# Altium integrated library Analog Devices Data Converters Analog-to-Digital Converters.IntLib: 2400 symbols (part 70 of 338)
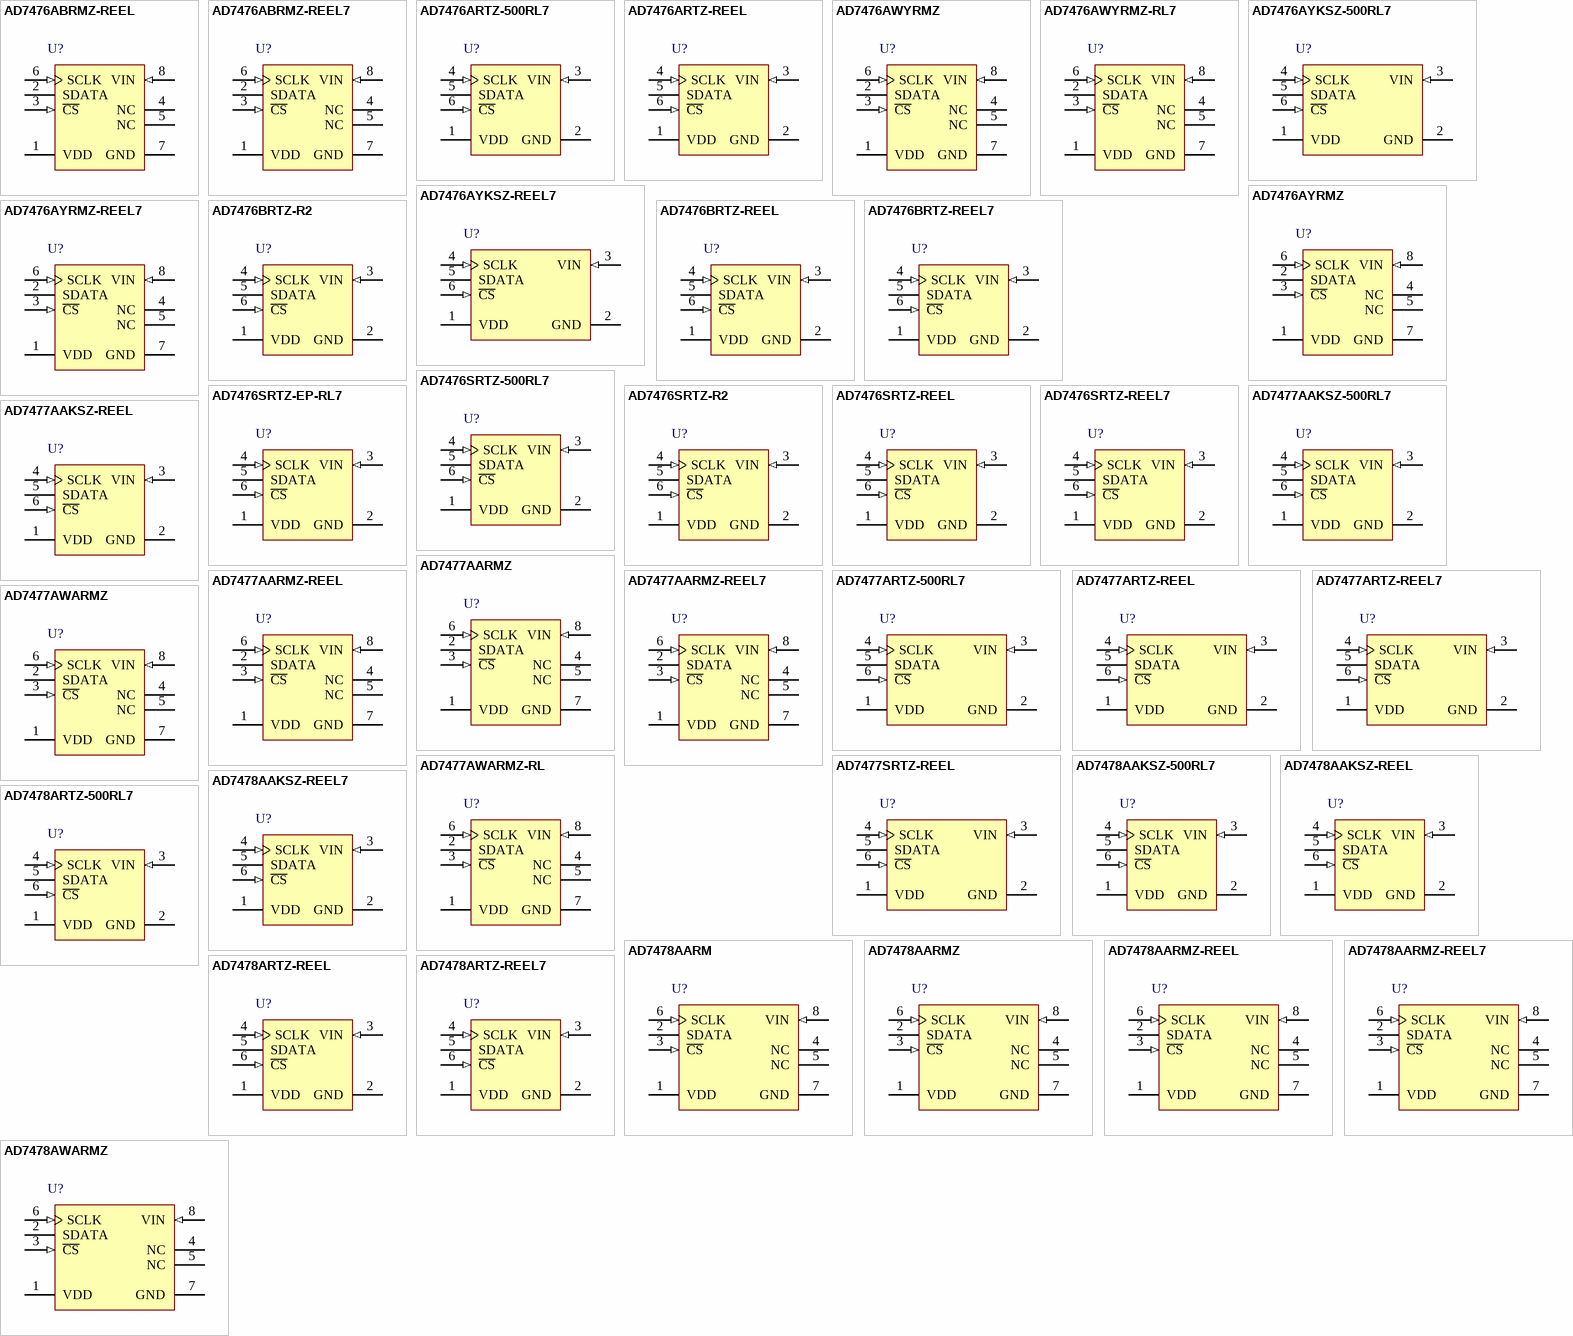
[diagram p195: symbols AD7476ABRMZ-REEL to AD7478AWARMZ]

## AD7478ARTZ-REEL7
designator U?
Single 8-Bit Analog-to-Digital Converter with Serial, SPI Interface, 1MSPS, -40 to +85 degC, RJ-6, Pb-Free, Reel; Part Number: AD7478; Manufacturer: Analog Devices; Resolution (Bits): 8; Channels: 1; Throughput Rate (SPS): 1M; Interface: Ser, SPI; DatasheetVersion: Rev.F; PackageVersion: 121608-A; PackageReference: RJ-6; PackageDescription: 6-Lead Small Outline Transistor Package [SOT-23]; RoHS: Y; Packing: Reel; Mounting Technology: Surface Mount; Code_JEDEC: MO-178-AB; ComponentLink1Description: Manufacturer URL; ComponentLink1URL: http://www.analog.com/en/index.html; ComponentLink2Description: Datasheet; ComponentLink2URL: http://www.analog.com/static/imported-files/data_sheets/AD7476_7477_7478.pdf; ComponentLink3Description: Package Specification; ComponentLink3URL: http://www.analog.com/static/imported-files/packages/PKG_PDF/SOT-23(RJ)/RJ_6.pdf; ComponentLink4Description: Product URL; ComponentLink4URL: http://www.analog.com/en/analog-to-digital-converters/ad-converters/ad7478/products/product.html
footprint RJ-6_N (SOT23, 6-Leads, Body 2.9x1.6mm, Pitch 0.95mm, Lead Span 2.8mm, IPC Medium Density)
footprint RJ-6_L (SOT23, 6-Leads, Body 2.9x1.6mm, Pitch 0.95mm, Lead Span 2.8mm, IPC High Density)
footprint RJ-6_M (SOT23, 6-Leads, Body 2.9x1.6mm, Pitch 0.95mm, Lead Span 2.8mm, IPC Low Density)
pins: 1 VDD (power) "Power Supply Input. The VDD range for the AD7476/AD7477/AD7478 is from 2.35 V to 5.25 V.", 2 GND (power) "Analog Ground. Ground reference point for all circuitry on the part. All analog input signals should be referred to this  GND voltage.", 3 VIN (in) "Analog Input. Single-ended analog input channel. The input range is 0 V to VDD.", 4 SCLK (in) "Serial Clock. Logic input. SCLK provides the serial clock for accessing data from the part. This clock input is also used as the clock source for the AD7476/AD7477/AD7478 conversion process.", 5 SDATA (hiz) "Data Out. Logic output. The conversion result is provided on this output as a serial data stream. The bits are clocked out on the falling edge of the SCLK input. The data stream from the AD7476 consists of four leading zeros (See Datasheet)", 6 ~{CS} (in) "Chip Select. Active low logic input. This input provides the dual function of initiating conversions on the AD7476/AD7477/AD7478 and framing the serial data transfer."

## AD7478AWARMZ
designator U?
Single 8-Bit Analog-to-Digital Converter with Serial, SPI Interface,2.35 V, 1.2MSPS, -40 to +85 degC, RM-8, Pb-Free, Tube; Part Number: AD7478A; Manufacturer: Analog Devices; Resolution (Bits): 8; Channels: 1; Throughput Rate (SPS): 1.2M; Interface: Ser, SPI; Automotive Qualified: Yes; DatasheetVersion: Rev.F; PackageVersion: Aug-2005; PackageReference: RM-8; PackageDescription: 8-Lead Mini Small Outline Package [MSOP]; RoHS: Y; Packing: Tube; Mounting Technology: Surface Mount; Code_JEDEC: MO-187-AA; ComponentLink1Description: Manufacturer URL; ComponentLink1URL: http://www.analog.com/en/index.html; ComponentLink2Description: Datasheet; ComponentLink2URL: http://www.analog.com/static/imported-files/data_sheets/AD7476A_7477A_7478A.pdf; ComponentLink3Description: Package Specification; ComponentLink3URL: http://www.analog.com/static/imported-files/packages/PKG_PDF/MSOP%28RM%29/RM_8.pdf; ComponentLink4Description: Product URL; ComponentLink4URL: http://www.analog.com/en/analog-to-digital-converters/ad-converters/ad7478a/products/product.html
footprint RM-8_N (TSOP, 8-Leads, Body 3x3mm, Pitch 0.65mm, IPC Medium Density)
footprint RM-8_L (TSOP, 8-Leads, Body 3x3mm, Pitch 0.65mm, IPC High Density)
footprint RM-8_M (TSOP, 8-Leads, Body 3x3mm, Pitch 0.65mm, IPC Low Density)
pins: 1 VDD (power) "Power Supply Input. The VDD range for AD7476A/AD7477A/AD7478A is from 2.35 V to 5.25 V.", 2 SDATA (hiz) "Data Out. Logic output. The conversion result from AD7476A/AD7477A/AD7478A is provided on this output as a serial data stream. The bits are clocked out on the falling edge of the SCLK input. The data stream from the AD7476A (See Datasheet)", 3 ~{CS} (in) "Chip Select. Active low logic input. This input provides the dual function of initiating conversions on the AD7476A/AD7477A/AD7478A and also frames the serial data transfer.", 4 NC "No Connect.", 5 NC "No Connect.", 6 SCLK (in) "Serial Clock. Logic input. SCLK provides the serial clock for accessing data from the part. This clock input is also used as the clock source for the conversion process of AD7476A/AD7477A/AD7478A.", 7 GND (power) "Analog Ground. Ground reference point for all circuitry on AD7476A/AD7477A/AD7478A. Refer all analog input signals to this GND voltage.", 8 VIN (in) "Analog Input. Single-ended analog input channel. The input range is 0 V to VDD."

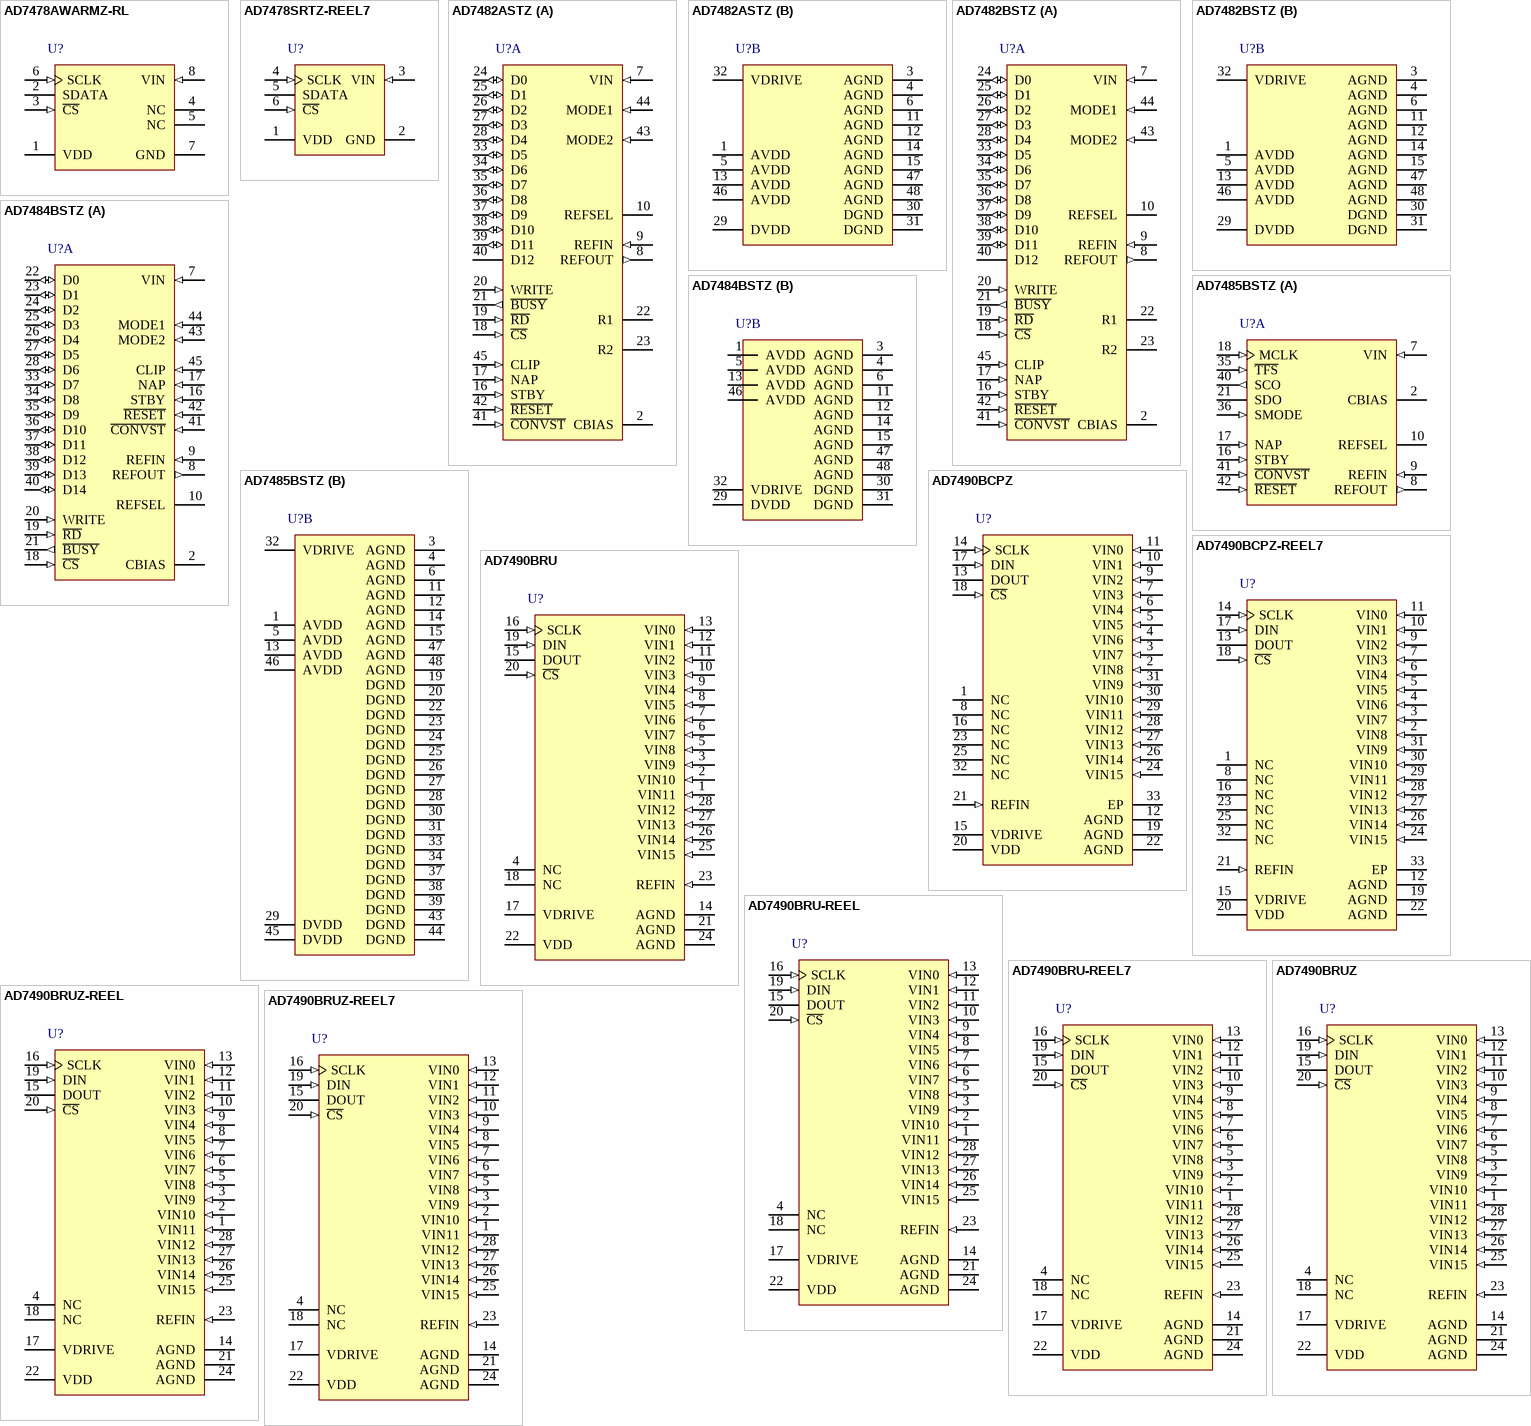
[diagram p26: symbols AD7478AWARMZ-RL to AD7490BRUZ-REEL7]

## AD7478AWARMZ-RL
designator U?
Single 8-Bit Analog-to-Digital Converter with Serial, SPI Interface,2.35 V, 1.2MSPS, -40 to +85 degC, RM-8, Pb-Free, Reel; Part Number: AD7478A; Manufacturer: Analog Devices; Resolution (Bits): 8; Channels: 1; Throughput Rate (SPS): 1.2M; Interface: Ser, SPI; Automotive Qualified: Yes; DatasheetVersion: Rev.F; PackageVersion: Aug-2005; PackageReference: RM-8; PackageDescription: 8-Lead Mini Small Outline Package [MSOP]; RoHS: Y; Packing: Reel; Mounting Technology: Surface Mount; Code_JEDEC: MO-187-AA; ComponentLink1Description: Manufacturer URL; ComponentLink1URL: http://www.analog.com/en/index.html; ComponentLink2Description: Datasheet; ComponentLink2URL: http://www.analog.com/static/imported-files/data_sheets/AD7476A_7477A_7478A.pdf; ComponentLink3Description: Package Specification; ComponentLink3URL: http://www.analog.com/static/imported-files/packages/PKG_PDF/MSOP%28RM%29/RM_8.pdf; ComponentLink4Description: Product URL; ComponentLink4URL: http://www.analog.com/en/analog-to-digital-converters/ad-converters/ad7478a/products/product.html
footprint RM-8_N (TSOP, 8-Leads, Body 3x3mm, Pitch 0.65mm, IPC Medium Density)
footprint RM-8_L (TSOP, 8-Leads, Body 3x3mm, Pitch 0.65mm, IPC High Density)
footprint RM-8_M (TSOP, 8-Leads, Body 3x3mm, Pitch 0.65mm, IPC Low Density)
pins: 1 VDD (power) "Power Supply Input. The VDD range for AD7476A/AD7477A/AD7478A is from 2.35 V to 5.25 V.", 2 SDATA (hiz) "Data Out. Logic output. The conversion result from AD7476A/AD7477A/AD7478A is provided on this output as a serial data stream. The bits are clocked out on the falling edge of the SCLK input. The data stream from the AD7476A (See Datasheet)", 3 ~{CS} (in) "Chip Select. Active low logic input. This input provides the dual function of initiating conversions on the AD7476A/AD7477A/AD7478A and also frames the serial data transfer.", 4 NC "No Connect.", 5 NC "No Connect.", 6 SCLK (in) "Serial Clock. Logic input. SCLK provides the serial clock for accessing data from the part. This clock input is also used as the clock source for the conversion process of AD7476A/AD7477A/AD7478A.", 7 GND (power) "Analog Ground. Ground reference point for all circuitry on AD7476A/AD7477A/AD7478A. Refer all analog input signals to this GND voltage.", 8 VIN (in) "Analog Input. Single-ended analog input channel. The input range is 0 V to VDD."

## AD7478SRTZ-REEL7
designator U?
Single 8-Bit Analog-to-Digital Converter with Serial, SPI Interface, 1MSPS, -55 to +125 degC, RJ-6, Pb-Free, Reel; Part Number: AD7478; Manufacturer: Analog Devices; Resolution (Bits): 8; Channels: 1; Throughput Rate (SPS): 1M; Interface: Ser, SPI; DatasheetVersion: Rev.F; PackageVersion: 121608-A; PackageReference: RJ-6; PackageDescription: 6-Lead Small Outline Transistor Package [SOT-23]; RoHS: Y; Packing: Reel; Mounting Technology: Surface Mount; Code_JEDEC: MO-178-AB; ComponentLink1Description: Manufacturer URL; ComponentLink1URL: http://www.analog.com/en/index.html; ComponentLink2Description: Datasheet; ComponentLink2URL: http://www.analog.com/static/imported-files/data_sheets/AD7476_7477_7478.pdf; ComponentLink3Description: Package Specification; ComponentLink3URL: http://www.analog.com/static/imported-files/packages/PKG_PDF/SOT-23(RJ)/RJ_6.pdf; ComponentLink4Description: Product URL; ComponentLink4URL: http://www.analog.com/en/analog-to-digital-converters/ad-converters/ad7478/products/product.html
footprint RJ-6_N (SOT23, 6-Leads, Body 2.9x1.6mm, Pitch 0.95mm, Lead Span 2.8mm, IPC Medium Density)
footprint RJ-6_L (SOT23, 6-Leads, Body 2.9x1.6mm, Pitch 0.95mm, Lead Span 2.8mm, IPC High Density)
footprint RJ-6_M (SOT23, 6-Leads, Body 2.9x1.6mm, Pitch 0.95mm, Lead Span 2.8mm, IPC Low Density)
pins: 1 VDD (power) "Power Supply Input. The VDD range for the AD7476/AD7477/AD7478 is from 2.35 V to 5.25 V.", 2 GND (power) "Analog Ground. Ground reference point for all circuitry on the part. All analog input signals should be referred to this  GND voltage.", 3 VIN (in) "Analog Input. Single-ended analog input channel. The input range is 0 V to VDD.", 4 SCLK (in) "Serial Clock. Logic input. SCLK provides the serial clock for accessing data from the part. This clock input is also used as the clock source for the AD7476/AD7477/AD7478 conversion process.", 5 SDATA (hiz) "Data Out. Logic output. The conversion result is provided on this output as a serial data stream. The bits are clocked out on the falling edge of the SCLK input. The data stream from the AD7476 consists of four leading zeros (See Datasheet)", 6 ~{CS} (in) "Chip Select. Active low logic input. This input provides the dual function of initiating conversions on the AD7476/AD7477/AD7478 and framing the serial data transfer."

## AD7482ASTZ
designator U?
Single 12-Bit SAR Analog-to-Digital Converter with Parallel Interface, 3MSPS, 0 to +70 degC, ST-48, Pb-Free, Tray; Part Number: AD7482; Manufacturer: Analog Devices; Resolution (Bits): 12; Channels: 1; Throughput Rate (SPS): 3M; Interface: Par; DatasheetVersion: Rev.B; PackageVersion: revA; PackageReference: ST-48; PackageDescription: 48-Pin Thin Quad Flat Pack 0.5 mm Pitch; RoHS: Y; Packing: Tray; Mounting Technology: Surface Mount; ComponentLink1Description: Manufacturer URL; ComponentLink1URL: http://www.analog.com/en/index.html; ComponentLink2Description: Datasheet; ComponentLink2URL: http://www.analog.com/static/imported-files/data_sheets/AD7482.pdf; ComponentLink3Description: Package Specification; ComponentLink3URL: http://www.analog.com/static/imported-files/packages/PKG_PDF/LQFP%28ST%29/ST_48.pdf; ComponentLink4Description: Product URL; ComponentLink4URL: http://www.analog.com/en/analog-to-digital-converters/ad-converters/ad7482/products/product.html
footprint ST-48_N (Thin QFP, 48-Leads, Body 7x7mm, Pitch 0.5mm, IPC Medium Density)
footprint ST-48_L (Thin QFP, 48-Leads, Body 7x7mm, Pitch 0.5mm, IPC High Density)
footprint ST-48_M (Thin QFP, 48-Leads, Body 7x7mm, Pitch 0.5mm, IPC Low Density)
part A pins: 2 CBIAS "Decoupling Pin for Internal Bias Voltage. A 1 nF capacitor should be placed between this pin and AGND.", 7 VIN (in) "Analog Input. Single ended analog input channel.", 8 REFOUT (out) "Reference Output. REFOUT connects to the output of the internal 2.5 V reference buffer. A 470 nF capacitor must be placed between this pin and AGND.", 9 REFIN (in) "Reference Input. A 470 nF capacitor must be placed between this pin and AGND. When using an external voltage reference source, the reference voltage should be applied to this pin.", 10 REFSEL "Reference Decoupling Pin. When using the internal reference, a 1 nF capacitor must be connected from this pin to AGND. When using an external reference source, this pin should be connected directly to AGND.", 16 STBY (in) "Standby Logic Input. When this pin is logic high, the device is placed in standby mode. See the Power Saving section for further details.", 17 NAP (in) "Nap Logic Input. When this pin is logic high, the device is placed in a very low power mode. See the Power Saving section for further details.", 18 ~{CS} (in) "Chip Select Logic Input. This pin is used in conjunction with R\D\ to access the conversion result. The data bus is brought out of three-state and the current contents of the output register driven onto the data lines (See Datasheet)", 19 ~{RD} (in) "Read Logic Input. Used in conjunction with C\S\ to access the conversion result.", 20 WRITE (in) "Write Logic Input. Used in conjunction with C\S\ to write data to the offset register. When the desired offset word has been placed on the data bus, the WRITE line should be pulsed high. It is the falling edge of this pulse (See Datasheet)", 21 ~{BUSY} (out) "Busy Logic Output. This pin indicates the status of the conversion process. The B\U\S\Y\ signal goes low after the falling edge of C\O\N\V\S\T\ and stays low for the duration of the conversion. In Parallel Mode 1, the (See Datasheet)", 22 R1 "No Connect. These pins should be pulled to ground via 100 kO resistors.", 23 R2 "No Connect. These pins should be pulled to ground via 100 kO resistors.", 24 D0 (io) "Data I/O Bits. D11 is MSB. These are three-state pins that are controlled by C\S\, R\D\, and WRITE. The operating voltage level for these pins is determined by the VDRIVE input.", 25 D1 (io) "Data I/O Bits. D11 is MSB. These are three-state pins that are controlled by C\S\, R\D\, and WRITE. The operating voltage level for these pins is determined by the VDRIVE input.", 26 D2 (io) "Data I/O Bits. D11 is MSB. These are three-state pins that are controlled by C\S\, R\D\, and WRITE. The operating voltage level for these pins is determined by the VDRIVE input.", 27 D3 (io) "Data I/O Bits. D11 is MSB. These are three-state pins that are controlled by C\S\, R\D\, and WRITE. The operating voltage level for these pins is determined by the VDRIVE input.", 28 D4 (io) "Data I/O Bits. D11 is MSB. These are three-state pins that are controlled by C\S\, R\D\, and WRITE. The operating voltage level for these pins is determined by the VDRIVE input.", 33 D5 (io) "Data I/O Bits. D11 is MSB. These are three-state pins that are controlled by C\S\, R\D\, and WRITE. The operating voltage level for these pins is determined by the VDRIVE input.", 34 D6 (io) "Data I/O Bits. D11 is MSB. These are three-state pins that are controlled by C\S\, R\D\, and WRITE. The operating voltage level for these pins is determined by the VDRIVE input.", 35 D7 (io) "Data I/O Bits. D11 is MSB. These are three-state pins that are controlled by C\S\, R\D\, and WRITE. The operating voltage level for these pins is determined by the VDRIVE input.", 36 D8 (io) "Data I/O Bits. D11 is MSB. These are three-state pins that are controlled by C\S\, R\D\, and WRITE. The operating voltage level for these pins is determined by the VDRIVE input.", 37 D9 (io) "Data I/O Bits. D11 is MSB. These are three-state pins that are controlled by C\S\, R\D\, and WRITE. The operating voltage level for these pins is determined by the VDRIVE input.", 38 D10 (io) "Data I/O Bits. D11 is MSB. These are three-state pins that are controlled by C\S\, R\D\, and WRITE. The operating voltage level for these pins is determined by the VDRIVE input.", 39 D11 (io) "Data I/O Bits. D11 is MSB. These are three-state pins that are controlled by C\S\, R\D\, and WRITE. The operating voltage level for these pins is determined by the VDRIVE input.", 40 D12 (hiz) "Data Output Bit for Overranging. If the overrange feature is not used, this pin should be pulled to DGND via a 100 kO resistor.", 41 ~{CONVST} (in) "Convert Start Logic Input. A conversion is initiated on the falling edge of the C\O\N\V\S\T\ signal. The input track-and-hold amplifier goes from track mode to hold mode, and the conversion process commences.", 42 ~{RESET} (in) "Reset Logic Input. An active low reset pulse must be applied to this pin after power-up to ensure correct operation. A falling edge on this pin resets the internal state machine and terminates a conversion that may be in (See Datasheet)", 43 MODE2 (in) "Operating Mode Logic Input. See Table 8 for details.", 44 MODE1 (in) "Operating Mode Logic Input. See Table 8 for details.", 45 CLIP (in) "Logic Input. A logic high on this pin enables output clipping. In this mode, any input voltage that is greater than positive full scale or less than negative full scale is clipped to all 1s or all 0s, respectively. Further (See Datasheet)"
part B pins: 1 AVDD (power) "Positive Power Supply for Analog Circuitry.", 3 AGND (power) "Power Supply Ground for Analog Circuitry.", 4 AGND (power) "Power Supply Ground for Analog Circuitry.", 5 AVDD (power) "Positive Power Supply for Analog Circuitry.", 6 AGND (power) "Power Supply Ground for Analog Circuitry.", 11 AGND (power) "Power Supply Ground for Analog Circuitry.", 12 AGND (power) "Power Supply Ground for Analog Circuitry.", 13 AVDD (power) "Positive Power Supply for Analog Circuitry.", 14 AGND (power) "Power Supply Ground for Analog Circuitry.", 15 AGND (power) "Power Supply Ground for Analog Circuitry.", 29 DVDD (power) "Positive Power Supply for Digital Circuitry.", 30 DGND (power) "Ground Reference for Digital Circuitry.", 31 DGND (power) "Ground Reference for Digital Circuitry.", 32 VDRIVE (power) "Logic Power Supply Input. The voltage supplied at this pin determines at what voltage the interface logic of the device operates.", 46 AVDD (power) "Positive Power Supply for Analog Circuitry.", 47 AGND (power) "Power Supply Ground for Analog Circuitry.", 48 AGND (power) "Power Supply Ground for Analog Circuitry."

## AD7482BSTZ
designator U?
Single 12-Bit SAR Analog-to-Digital Converter with Parallel Interface, 3MSPS, 0 to +70 degC, ST-48, Pb-Free, Tray; Part Number: AD7482; Manufacturer: Analog Devices; Resolution (Bits): 12; Channels: 1; Throughput Rate (SPS): 3M; Interface: Par; DatasheetVersion: Rev.B; PackageVersion: revA; PackageReference: ST-48; PackageDescription: 48-Pin Thin Quad Flat Pack 0.5 mm Pitch; RoHS: Y; Packing: Tray; Mounting Technology: Surface Mount; ComponentLink1Description: Manufacturer URL; ComponentLink1URL: http://www.analog.com/en/index.html; ComponentLink2Description: Datasheet; ComponentLink2URL: http://www.analog.com/static/imported-files/data_sheets/AD7482.pdf; ComponentLink3Description: Package Specification; ComponentLink3URL: http://www.analog.com/static/imported-files/packages/PKG_PDF/LQFP%28ST%29/ST_48.pdf; ComponentLink4Description: Product URL; ComponentLink4URL: http://www.analog.com/en/analog-to-digital-converters/ad-converters/ad7482/products/product.html
footprint ST-48_N (Thin QFP, 48-Leads, Body 7x7mm, Pitch 0.5mm, IPC Medium Density)
footprint ST-48_L (Thin QFP, 48-Leads, Body 7x7mm, Pitch 0.5mm, IPC High Density)
footprint ST-48_M (Thin QFP, 48-Leads, Body 7x7mm, Pitch 0.5mm, IPC Low Density)
part A pins: 2 CBIAS "Decoupling Pin for Internal Bias Voltage. A 1 nF capacitor should be placed between this pin and AGND.", 7 VIN (in) "Analog Input. Single ended analog input channel.", 8 REFOUT (out) "Reference Output. REFOUT connects to the output of the internal 2.5 V reference buffer. A 470 nF capacitor must be placed between this pin and AGND.", 9 REFIN (in) "Reference Input. A 470 nF capacitor must be placed between this pin and AGND. When using an external voltage reference source, the reference voltage should be applied to this pin.", 10 REFSEL "Reference Decoupling Pin. When using the internal reference, a 1 nF capacitor must be connected from this pin to AGND. When using an external reference source, this pin should be connected directly to AGND.", 16 STBY (in) "Standby Logic Input. When this pin is logic high, the device is placed in standby mode. See the Power Saving section for further details.", 17 NAP (in) "Nap Logic Input. When this pin is logic high, the device is placed in a very low power mode. See the Power Saving section for further details.", 18 ~{CS} (in) "Chip Select Logic Input. This pin is used in conjunction with R\D\ to access the conversion result. The data bus is brought out of three-state and the current contents of the output register driven onto the data lines (See Datasheet)", 19 ~{RD} (in) "Read Logic Input. Used in conjunction with C\S\ to access the conversion result.", 20 WRITE (in) "Write Logic Input. Used in conjunction with C\S\ to write data to the offset register. When the desired offset word has been placed on the data bus, the WRITE line should be pulsed high. It is the falling edge of this pulse (See Datasheet)", 21 ~{BUSY} (out) "Busy Logic Output. This pin indicates the status of the conversion process. The B\U\S\Y\ signal goes low after the falling edge of C\O\N\V\S\T\ and stays low for the duration of the conversion. In Parallel Mode 1, the (See Datasheet)", 22 R1 "No Connect. These pins should be pulled to ground via 100 kO resistors.", 23 R2 "No Connect. These pins should be pulled to ground via 100 kO resistors.", 24 D0 (io) "Data I/O Bits. D11 is MSB. These are three-state pins that are controlled by C\S\, R\D\, and WRITE. The operating voltage level for these pins is determined by the VDRIVE input.", 25 D1 (io) "Data I/O Bits. D11 is MSB. These are three-state pins that are controlled by C\S\, R\D\, and WRITE. The operating voltage level for these pins is determined by the VDRIVE input.", 26 D2 (io) "Data I/O Bits. D11 is MSB. These are three-state pins that are controlled by C\S\, R\D\, and WRITE. The operating voltage level for these pins is determined by the VDRIVE input.", 27 D3 (io) "Data I/O Bits. D11 is MSB. These are three-state pins that are controlled by C\S\, R\D\, and WRITE. The operating voltage level for these pins is determined by the VDRIVE input.", 28 D4 (io) "Data I/O Bits. D11 is MSB. These are three-state pins that are controlled by C\S\, R\D\, and WRITE. The operating voltage level for these pins is determined by the VDRIVE input.", 33 D5 (io) "Data I/O Bits. D11 is MSB. These are three-state pins that are controlled by C\S\, R\D\, and WRITE. The operating voltage level for these pins is determined by the VDRIVE input.", 34 D6 (io) "Data I/O Bits. D11 is MSB. These are three-state pins that are controlled by C\S\, R\D\, and WRITE. The operating voltage level for these pins is determined by the VDRIVE input.", 35 D7 (io) "Data I/O Bits. D11 is MSB. These are three-state pins that are controlled by C\S\, R\D\, and WRITE. The operating voltage level for these pins is determined by the VDRIVE input.", 36 D8 (io) "Data I/O Bits. D11 is MSB. These are three-state pins that are controlled by C\S\, R\D\, and WRITE. The operating voltage level for these pins is determined by the VDRIVE input.", 37 D9 (io) "Data I/O Bits. D11 is MSB. These are three-state pins that are controlled by C\S\, R\D\, and WRITE. The operating voltage level for these pins is determined by the VDRIVE input.", 38 D10 (io) "Data I/O Bits. D11 is MSB. These are three-state pins that are controlled by C\S\, R\D\, and WRITE. The operating voltage level for these pins is determined by the VDRIVE input.", 39 D11 (io) "Data I/O Bits. D11 is MSB. These are three-state pins that are controlled by C\S\, R\D\, and WRITE. The operating voltage level for these pins is determined by the VDRIVE input.", 40 D12 (hiz) "Data Output Bit for Overranging. If the overrange feature is not used, this pin should be pulled to DGND via a 100 kO resistor.", 41 ~{CONVST} (in) "Convert Start Logic Input. A conversion is initiated on the falling edge of the C\O\N\V\S\T\ signal. The input track-and-hold amplifier goes from track mode to hold mode, and the conversion process commences.", 42 ~{RESET} (in) "Reset Logic Input. An active low reset pulse must be applied to this pin after power-up to ensure correct operation. A falling edge on this pin resets the internal state machine and terminates a conversion that may be in (See Datasheet)", 43 MODE2 (in) "Operating Mode Logic Input. See Table 8 for details.", 44 MODE1 (in) "Operating Mode Logic Input. See Table 8 for details.", 45 CLIP (in) "Logic Input. A logic high on this pin enables output clipping. In this mode, any input voltage that is greater than positive full scale or less than negative full scale is clipped to all 1s or all 0s, respectively. Further (See Datasheet)"
part B pins: 1 AVDD (power) "Positive Power Supply for Analog Circuitry.", 3 AGND (power) "Power Supply Ground for Analog Circuitry.", 4 AGND (power) "Power Supply Ground for Analog Circuitry.", 5 AVDD (power) "Positive Power Supply for Analog Circuitry.", 6 AGND (power) "Power Supply Ground for Analog Circuitry.", 11 AGND (power) "Power Supply Ground for Analog Circuitry.", 12 AGND (power) "Power Supply Ground for Analog Circuitry.", 13 AVDD (power) "Positive Power Supply for Analog Circuitry.", 14 AGND (power) "Power Supply Ground for Analog Circuitry.", 15 AGND (power) "Power Supply Ground for Analog Circuitry.", 29 DVDD (power) "Positive Power Supply for Digital Circuitry.", 30 DGND (power) "Ground Reference for Digital Circuitry.", 31 DGND (power) "Ground Reference for Digital Circuitry.", 32 VDRIVE (power) "Logic Power Supply Input. The voltage supplied at this pin determines at what voltage the interface logic of the device operates.", 46 AVDD (power) "Positive Power Supply for Analog Circuitry.", 47 AGND (power) "Power Supply Ground for Analog Circuitry.", 48 AGND (power) "Power Supply Ground for Analog Circuitry."

## AD7484BSTZ
designator U?
Single 14-Bit SAR Analog-to-Digital Converter with Parallel Interface, 3MSPS, 0 to +70 degC, ST-48, Pb-Free, Tray; Part Number: AD7484; Manufacturer: Analog Devices; Resolution (Bits): 14; Channels: 1; Throughput Rate (SPS): 3M; Interface: Par; DatasheetVersion: Rev.C; PackageVersion: revA; PackageReference: ST-48; PackageDescription: 48-Pin Thin Quad Flat Pack 0.5 mm Pitch; RoHS: Y; Packing: Tray; Mounting Technology: Surface Mount; ComponentLink1Description: Manufacturer URL; ComponentLink1URL: http://www.analog.com/en/index.html; ComponentLink2Description: Datasheet; ComponentLink2URL: http://www.analog.com/static/imported-files/data_sheets/AD7484.pdf; ComponentLink3Description: Package Specification; ComponentLink3URL: http://www.analog.com/static/imported-files/packages/PKG_PDF/LQFP%28ST%29/ST_48.pdf; ComponentLink4Description: Product URL; ComponentLink4URL: http://www.analog.com/en/analog-to-digital-converters/ad-converters/ad7484/products/product.html
footprint ST-48_N (Thin QFP, 48-Leads, Body 7x7mm, Pitch 0.5mm, IPC Medium Density)
footprint ST-48_L (Thin QFP, 48-Leads, Body 7x7mm, Pitch 0.5mm, IPC High Density)
footprint ST-48_M (Thin QFP, 48-Leads, Body 7x7mm, Pitch 0.5mm, IPC Low Density)
part A pins: 2 CBIAS "Decoupling Pin for Internal Bias Voltage. A 1 nF capacitor should be placed between this pin and AGND.", 7 VIN (in) "Analog Input. Single ended analog input channel.", 8 REFOUT (out) "Reference Output. REFOUT connects to the output of the internal 2.5 V reference buffer. A 470 nF capacitor must be placed between this pin and AGND.", 9 REFIN (in) "Reference Input. A 470 nF capacitor must be placed between this pin and AGND. When using an external voltage reference source, the reference voltage should be applied to this pin.", 10 REFSEL "Reference Decoupling Pin. When using the internal reference, a 1 nF capacitor must be connected from this pin to AGND. When using an external reference source, this pin should be connected directly to AGND.", 16 STBY (in) "Standby Logic Input. When this pin is logic high, the device is placed in standby mode. See the Power Saving section for further details.", 17 NAP (in) "Nap Logic Input. When this pin is logic high, the device is placed in a very low power mode. See the Power Saving section for further details.", 18 ~{CS} (in) "Chip Select Logic Input. This pin is used in conjunction with R\D\ to access the conversion result. The data bus is brought out of three-state and the current contents of the output register driven onto the data lines (See Datasheet)", 19 ~{RD} (in) "Read Logic Input. Used in conjunction with C\S\ to access the conversion result.", 20 WRITE (in) "Write Logic Input. Used in conjunction with C\S\ to write data to the offset register. When the desired offset word has been placed on the data bus, the WRITE line should be pulsed high. It is the falling edge of this pulse (See Datasheet)", 21 ~{BUSY} (out) "Busy Logic Output. This pin indicates the status of the conversion process. The B\U\S\Y\ signal goes low after the falling edge of C\O\N\V\S\T\ and stays low for the duration of the conversion. In Parallel Mode 1, the (See Datasheet)", 22 D0 (io) "Data I/O Bits. D13 is MSB. These are three-state pins that are controlled by C\S\, R\D\, and WRITE. The operating  voltage level for these pins is determined by the VDRIVE input.", 23 D1 (io) "Data I/O Bits. D13 is MSB. These are three-state pins that are controlled by C\S\, R\D\, and WRITE. The operating  voltage level for these pins is determined by the VDRIVE input.", 24 D2 (io) "Data I/O Bits. D13 is MSB. These are three-state pins that are controlled by C\S\, R\D\, and WRITE. The operating  voltage level for these pins is determined by the VDRIVE input.", 25 D3 (io) "Data I/O Bits. D13 is MSB. These are three-state pins that are controlled by C\S\, R\D\, and WRITE. The operating  voltage level for these pins is determined by the VDRIVE input.", 26 D4 (io) "Data I/O Bits. D13 is MSB. These are three-state pins that are controlled by C\S\, R\D\, and WRITE. The operating  voltage level for these pins is determined by the VDRIVE input.", 27 D5 (io) "Data I/O Bits. D13 is MSB. These are three-state pins that are controlled by C\S\, R\D\, and WRITE. The operating  voltage level for these pins is determined by the VDRIVE input.", 28 D6 (io) "Data I/O Bits. D13 is MSB. These are three-state pins that are controlled by C\S\, R\D\, and WRITE. The operating  voltage level for these pins is determined by the VDRIVE input.", 33 D7 (io) "Data I/O Bits. D13 is MSB. These are three-state pins that are controlled by C\S\, R\D\, and WRITE. The operating  voltage level for these pins is determined by the VDRIVE input.", 34 D8 (io) "Data I/O Bits. D13 is MSB. These are three-state pins that are controlled by C\S\, R\D\, and WRITE. The operating  voltage level for these pins is determined by the VDRIVE input.", 35 D9 (io) "Data I/O Bits. D13 is MSB. These are three-state pins that are controlled by C\S\, R\D\, and WRITE. The operating  voltage level for these pins is determined by the VDRIVE input.", 36 D10 (io) "Data I/O Bits. D13 is MSB. These are three-state pins that are controlled by C\S\, R\D\, and WRITE. The operating  voltage level for these pins is determined by the VDRIVE input.", 37 D11 (io) "Data I/O Bits. D13 is MSB. These are three-state pins that are controlled by C\S\, R\D\, and WRITE. The operating  voltage level for these pins is determined by the VDRIVE input.", 38 D12 (io) "Data I/O Bits. D13 is MSB. These are three-state pins that are controlled by C\S\, R\D\, and WRITE. The operating  voltage level for these pins is determined by the VDRIVE input.", 39 D13 (io) "Data I/O Bits. D13 is MSB. These are three-state pins that are controlled by C\S\, R\D\, and WRITE. The operating  voltage level for these pins is determined by the VDRIVE input.", 40 D14 (io) "Data Output Bit for Overranging. If the overrange feature is not used, this pin should be pulled to DGND via a 100 k ohm resistor.", 41 ~{CONVST} (in) "Convert Start Logic Input. A conversion is initiated on the falling edge of the C\O\N\V\S\T\ signal. The input track and-hold amplifier goes from track mode to hold mode, and the conversion process commences.", 42 ~{RESET} (in) "Reset Logic Input. An active low reset pulse must be applied to this pin after power-up to ensure correct operation. A falling edge on this pin resets the internal state machine and terminates a conversion that may be in (See Datasheet)", 43 MODE2 (in) "Operating Mode Logic Input. See Table 8 for details.", 44 MODE1 (in) "Operating Mode Logic Input. See Table 8 for details.", 45 CLIP (in) "Logic Input. A logic high on this pin enables output clipping. In this mode, any input voltage that is greater than positive full scale or less than negative full scale will be clipped to all 1s or all 0s, respectively. (See Datasheet)"
part B pins: 1 AVDD (power) "Positive Power Supply for Analog Circuitry.", 3 AGND (power) "Power Supply Ground for Analog Circuitry.", 4 AGND (power) "Power Supply Ground for Analog Circuitry.", 5 AVDD (power) "Positive Power Supply for Analog Circuitry.", 6 AGND (power) "Power Supply Ground for Analog Circuitry.", 11 AGND (power) "Power Supply Ground for Analog Circuitry.", 12 AGND (power) "Power Supply Ground for Analog Circuitry.", 13 AVDD (power) "Positive Power Supply for Analog Circuitry.", 14 AGND (power) "Power Supply Ground for Analog Circuitry.", 15 AGND (power) "Power Supply Ground for Analog Circuitry.", 29 DVDD (power) "Positive Power Supply for Digital Circuitry.", 30 DGND (power) "Ground Reference for Digital Circuitry.", 31 DGND (power) "Ground Reference for Digital Circuitry.", 32 VDRIVE (power) "Logic Power Supply Input. The voltage supplied at this pin determines at what voltage the interface logic of the device operates.", 46 AVDD (power) "Positive Power Supply for Analog Circuitry.", 47 AGND (power) "Power Supply Ground for Analog Circuitry.", 48 AGND (power) "Power Supply Ground for Analog Circuitry."

## AD7485BSTZ
designator U?
Single 14-Bit SAR Analog-to-Digital Converter with Serial Interface, 1MSPS, -40 to +85 degC, ST-48, Pb-Free, Tray; Part Number: AD7485; Manufacturer: Analog Devices; Resolution (Bits): 14; Channels: 1; Throughput Rate (SPS): 1M; Interface: Ser; DatasheetVersion: Rev.A; PackageVersion: revA; PackageReference: ST-48; PackageDescription: 48-Pin Thin Quad Flat Pack 0.5 mm Pitch; RoHS: Y; Packing: Tray; Mounting Technology: Surface Mount; ComponentLink1Description: Manufacturer URL; ComponentLink1URL: http://www.analog.com/en/index.html; ComponentLink2Description: Datasheet; ComponentLink2URL: http://www.analog.com/static/imported-files/data_sheets/AD7485.pdf; ComponentLink3Description: Package Specification; ComponentLink3URL: http://www.analog.com/static/imported-files/packages/PKG_PDF/LQFP%28ST%29/ST_48.pdf; ComponentLink4Description: Product URL; ComponentLink4URL: http://www.analog.com/en/analog-to-digital-converters/ad-converters/ad7485/products/product.html
footprint ST-48_N (Thin QFP, 48-Leads, Body 7x7mm, Pitch 0.5mm, IPC Medium Density)
footprint ST-48_L (Thin QFP, 48-Leads, Body 7x7mm, Pitch 0.5mm, IPC High Density)
footprint ST-48_M (Thin QFP, 48-Leads, Body 7x7mm, Pitch 0.5mm, IPC Low Density)
part A pins: 2 CBIAS "Decoupling Pin for Internal Bias Voltage. A 1 nF capacitor should be placed between this pin and AGND.", 7 VIN (in) "Analog Input. Single-ended analog input channel.", 8 REFOUT (out) "Reference Output. REFOUT connects to the output of the internal 2.5 V reference buffer. A 470 nF capacitor must be placed between this pin and AGND.", 9 REFIN (in) "Reference Input. A 470 nF capacitor must be placed between this pin and AGND. When using  an external voltage reference source, the reference voltage should be applied to this pin.", 10 REFSEL "Reference Decoupling Pin. When using the internal reference, a 1 nF capacitor must be connected from this pin to AGND. When using an external reference source, this pin should be connected directly to AGND.", 16 STBY (in) "Standby Logic Input. When this pin is logic high, the device will be placed in STANDBY mode. See the Power Saving section for further details.", 17 NAP (in) "Nap Logic Input. When this pin is logic high, the device will be placed in a very low power mode. See the Power Saving section for further details.", 18 MCLK (in) "Master Clock Input. This is the input for the master clock, which controls the conversion cycle. The fre-quency of this clock may be up to 25 MHz. Twenty-four clock cycles are required for each conversion.", 21 SDO (hiz) "Serial Data Output. The conversion data is latched out on this pin on the rising edge of SCO. It should be latched into the receiving serial port of the DSP on the falling edge of SCO. The over- range bit is latched out (See Datasheet)", 35 ~{TFS} (in) "Transmit Frame Sync Input. In Serial Mode 2, this pin acts as a framing signal for the serial data being clocked out on SDO. A falling edge on TFS  brings SDO out of three-state and the data starts to get clocked out on the (See Datasheet)", 36 SMODE (in) "Serial Mode Input. A logic low on this pin selects Serial Mode 1 and a logic high selects Serial Mode 2. See the Serial Interface section for further details.", 40 SCO (out) "Serial Clock Output. This clock is derived from MCLK and is used to latch conversion data from the device. See the Serial Interface section for further details.", 41 ~{CONVST} (in) "Convert Start Logic Input. A conversion is initiated on the falling edge of the C\O\N\V\S\T\  signal. The input track/hold amplifier goes from track mode to hold mode and the conversion process commences.", 42 ~{RESET} (in) "Reset Logic Input. A falling edge on this pin resets the internal state machine and terminates a conversion that may be in progress. Holding this pin low keeps the part in a reset state."
part B pins: 1 AVDD (power) "Positive Power Supply for Analog Circuitry", 3 AGND (power) "Power Supply Ground for Analog Circuitry", 4 AGND (power) "Power Supply Ground for Analog Circuitry", 5 AVDD (power) "Positive Power Supply for Analog Circuitry", 6 AGND (power) "Power Supply Ground for Analog Circuitry", 11 AGND (power) "Power Supply Ground for Analog Circuitry", 12 AGND (power) "Power Supply Ground for Analog Circuitry", 13 AVDD (power) "Positive Power Supply for Analog Circuitry", 14 AGND (power) "Power Supply Ground for Analog Circuitry", 15 AGND (power) "Power Supply Ground for Analog Circuitry", 19 DGND (power) "Ground Reference for Digital Circuitry", 20 DGND (power) "Ground Reference for Digital Circuitry", 22 DGND (power) "Ground Reference for Digital Circuitry", 23 DGND (power) "Ground Reference for Digital Circuitry", 24 DGND (power) "Ground Reference for Digital Circuitry", 25 DGND (power) "Ground Reference for Digital Circuitry", 26 DGND (power) "Ground Reference for Digital Circuitry", 27 DGND (power) "Ground Reference for Digital Circuitry", 28 DGND (power) "Ground Reference for Digital Circuitry", 29 DVDD (power) "Positive Power Supply for Digital Circuitry", 30 DGND (power) "Ground Reference for Digital Circuitry", 31 DGND (power) "Ground Reference for Digital Circuitry", 32 VDRIVE (power) "Logic Power Supply Input. The voltage supplied at this pin determines at what voltage the interface logic of the AD7485 will operate.", 33 DGND (power) "Ground Reference for Digital Circuitry", 34 DGND (power) "Ground Reference for Digital Circuitry", 37 DGND (power) "Ground Reference for Digital Circuitry", 38 DGND (power) "Ground Reference for Digital Circuitry", 39 DGND (power) "Ground Reference for Digital Circuitry", 43 DGND (power) "Ground Reference for Digital Circuitry", 44 DGND (power) "Ground Reference for Digital Circuitry", 45 DVDD (power) "Positive Power Supply for Digital Circuitry", 46 AVDD (power) "Positive Power Supply for Analog Circuitry", 47 AGND (power) "Power Supply Ground for Analog Circuitry", 48 AGND (power) "Power Supply Ground for Analog Circuitry"

## AD7490BCPZ
designator U?
16 Channel 12-Bit Analog-to-Digital Converter with Serial, SPI Interface and Sequencer, 1MSPS, -40 to +85 degC, CP-32-2, Pb-Free, Tray; Part Number: AD7490; Manufacturer: Analog Devices; Resolution (Bits): 12; Channels: 16; Throughput Rate (SPS): 1M; Interface: Ser, SPI; DatasheetVersion: Rev.C; PackageVersion: Jan-2005; PackageReference: CP-32-2; PackageDescription: 32-Lead Lead Frame Chip Scale Package [LFCSP_VQ] 5 x 5 mm Body, Very Thin Quad; RoHS: Y; Packing: Tray; Mounting Technology: Surface Mount; Code_JEDEC: MO-220-VHHD-2; ComponentLink1Description: Manufacturer URL; ComponentLink1URL: http://www.analog.com/en/index.html; ComponentLink2Description: Datasheet; ComponentLink2URL: http://www.analog.com/static/imported-files/data_sheets/AD7490.pdf; ComponentLink3Description: Package Specification; ComponentLink3URL: http://www.analog.com/static/imported-files/packages/414143737956480539664569CP_32_2.pdf; ComponentLink4Description: Product URL; ComponentLink4URL: http://www.analog.com/en/analog-to-digital-converters/ad-converters/ad7490/products/product.html
footprint CP-32-2_N (QFN, 32-Leads, Body 5x5mm, Pitch 0.5mm, Thermal Pad 3.1x3.1mm, IPC Medium Density)
footprint CP-32-2_L (QFN, 32-Leads, Body 5x5mm, Pitch 0.5mm, Thermal Pad 3.1x3.1mm, IPC High Density)
footprint CP-32-2_M (QFN, 32-Leads, Body 5x5mm, Pitch 0.5mm, Thermal Pad 3.1x3.1mm, IPC Low Density)
pins: 1 NC "No connect.", 2 VIN8 (in) "Analog Input 8. Sixteen single-ended analog input channels that are multiplexed into the on chip track-and-hold. The analog input channel to be converted is selected by using the address bits ADD3 through ADD0 of the control (See Datasheet)", 3 VIN7 (in) "Analog Input 7. Sixteen single-ended analog input channels that are multiplexed into the on chip track-and-hold. The analog input channel to be converted is selected by using the address bits ADD3 through ADD0 of the control (See Datasheet)", 4 VIN6 (in) "Analog Input 6. Sixteen single-ended analog input channels that are multiplexed into the on chip track-and-hold. The analog input channel to be converted is selected by using the address bits ADD3 through ADD0 of the control (See Datasheet)", 5 VIN5 (in) "Analog Input 5. Sixteen single-ended analog input channels that are multiplexed into the on chip track-and-hold. The analog input channel to be converted is selected by using the address bits ADD3 through ADD0 of the control (See Datasheet)", 6 VIN4 (in) "Analog Input 4. Sixteen single-ended analog input channels that are multiplexed into the on chip track-and-hold. The analog input channel to be converted is selected by using the address bits ADD3 through ADD0 of the control (See Datasheet)", 7 VIN3 (in) "Analog Input 3. Sixteen single-ended analog input channels that are multiplexed into the on chip track-and-hold. The analog input channel to be converted is selected by using the address bits ADD3 through ADD0 of the control (See Datasheet)", 8 NC "No connect.", 9 VIN2 (in) "Analog Input 2. Sixteen single-ended analog input channels that are multiplexed into the on chip track-and-hold. The analog input channel to be converted is selected by using the address bits ADD3 through ADD0 of the control (See Datasheet)", 10 VIN1 (in) "Analog Input 1. Sixteen single-ended analog input channels that are multiplexed into the on chip track-and-hold. The analog input channel to be converted is selected by using the address bits ADD3 through ADD0 of the control (See Datasheet)", 11 VIN0 (in) "Analog Input 0. Sixteen single-ended analog input channels that are multiplexed into the on chip track-and-hold. The analog input channel to be converted is selected by using the address bits ADD3 through ADD0 of the control (See Datasheet)", 12 AGND (power) "Analog Ground. Ground reference point for all circuitry on the AD7490. All analog/digital input signals and any external reference signal should be referred to this AGND voltage. All AGND pins should be connected together.", 13 DOUT (hiz) "Data Out. Logic output. The conversion result from the AD7490 is provided on this output as a serial data stream. The bits are clocked out on the falling edge of the SCLK input. The data stream consists of four address bits (See Datasheet)", 14 SCLK (in) "Serial Clock. Logic input. SCLK provides the serial clock for accessing data from the part. This clock input is also used as the clock source for the conversion process of the AD7490.", 15 VDRIVE (power) "Logic Power Supply Input. The voltage supplied at this pin determines at what voltage the serial interface of the AD7490 operates.", 16 NC "No connect.", 17 DIN (in) "Data In. Logic input. Data to be written to the control register of the AD7490 is provided on this input and is clocked into the register on the falling edge of SCLK (see the Control Register section).", 18 ~{CS} (in) "Chip Select. Active low logic input. This input provides the dual function of initiating conversions on the AD7490 and also frames the serial data transfer.", 19 AGND (power) "Analog Ground. Ground reference point for all circuitry on the AD7490. All analog/digital input signals and any external reference signal should be referred to this AGND voltage. All AGND pins should be connected together.", 20 VDD (power) "Power Supply Input. The VDD range for the AD7490 is from 2.7 V to 5.25 V. For the 0 V to 2 x REFIN range, VDD should be from 4.75 V to 5.25 V.", 21 REFIN (in) "Reference Input for the AD7490. An external reference must be applied to this input. The voltage range for the external reference is 2.5 V +/- 1% for specified performance.", 22 AGND (power) "Analog Ground. Ground reference point for all circuitry on the AD7490. All analog/digital input signals and any external reference signal should be referred to this AGND voltage. All AGND pins should be connected together.", 23 NC "No connect.", 24 VIN15 (in) "Analog Input 15. Sixteen single-ended analog input channels that are multiplexed into the on chip track-and-hold. The analog input channel to be converted is selected by using the address bits ADD3 through ADD0 of the (See Datasheet)", 25 NC "No connect.", 26 VIN14 (in) "Analog Input 14. Sixteen single-ended analog input channels that are multiplexed into the on chip track-and-hold. The analog input channel to be converted is selected by using the address bits ADD3 through ADD0 of the (See Datasheet)", 27 VIN13 (in) "Analog Input 13. Sixteen single-ended analog input channels that are multiplexed into the on chip track-and-hold. The analog input channel to be converted is selected by using the address bits ADD3 through ADD0 of the (See Datasheet)", 28 VIN12 (in) "Analog Input 12. Sixteen single-ended analog input channels that are multiplexed into the on chip track-and-hold. The analog input channel to be converted is selected by using the address bits ADD3 through ADD0 of the (See Datasheet)", 29 VIN11 (in) "Analog Input 11. Sixteen single-ended analog input channels that are multiplexed into the on chip track-and-hold. The analog input channel to be converted is selected by using the address bits ADD3 through ADD0 of the (See Datasheet)", 30 VIN10 (in) "Analog Input 10. Sixteen single-ended analog input channels that are multiplexed into the on chip track-and-hold. The analog input channel to be converted is selected by using the address bits ADD3 through ADD0 of the (See Datasheet)", 31 VIN9 (in) "Analog Input 9. Sixteen single-ended analog input channels that are multiplexed into the on chip track-and-hold. The analog input channel to be converted is selected by using the address bits ADD3 through ADD0 of the control (See Datasheet)", 32 NC "No connect.", 33 EP (power) "Exposed pad."